# Altium schematic symbol library 2020-11-26_03-13-05.SchLib: 2 symbols
Pins are listed as number, name and electrical type; pins without a type are passive.

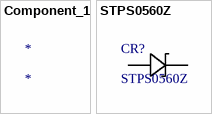
[diagram p0: symbols Component_1 to STPS0560Z]

## Component_1
designator *

## STPS0560Z
designator CR?
No Description Available; Vendor: STMicroelectronics; Built_By: EMA_UL_Team; SourceLibrary: Update_to_database_2020-11-24; Type: DEV; Manufacturer_Part_Number: STPS0560Z; Copyright: Copyright (C) 2018 Accelerated Designs. All rights reserved; RefDes: RefDes
footprint SOD-123_STM
pins: 1, 2